# Altium schematic symbol library Resistor_0603.SchLib: 233 symbols (part 1 of 4)
Pins are listed as number, name and electrical type; pins without a type are passive.

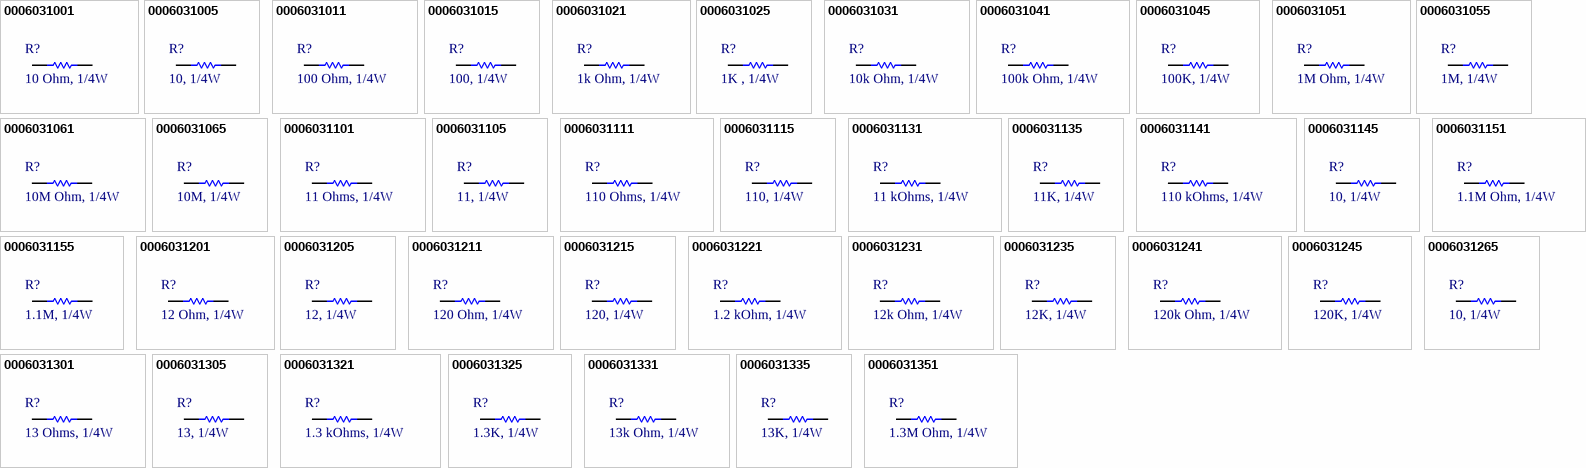
[diagram p0: symbols 0006031001 to 0006031351]

## 0006031001
designator R?, comment 10 Ohm, 1/4W
RES, 10 Ohm, size 0603, 1%; Resistance: 10; Resistance Tolerant: +/-1%; Supply 1 Name: Mouser; Supply 1 SN: 603-SR0603FR-7T10RL; Supply 2 Name: Digikey; Supply 2 SN: YAG5824TR-ND YAG5824CT-ND YAG5824DKR-ND; Size: 0603; Rated Power: 1/4W; Mounting Technology: SMT; ComponentLink1Description: Datasheet link; ComponentLink1URL: https://www.yageo.com/upload/media/product/productsearch/datasheet/rchip/PYu-SR_20105_RoHS_L_10.pdf; ComponentLink2Description: Supply 1 URL; ComponentLink2URL: https://www.mouser.vn/ProductDetail/YAGEO/SR0603FR-7T10RL?qs=sGAEpiMZZMvdGkrng054tz1y1XEHv7sNLVh8FRa6mVfbhGJwfIIhGg%3D%3D; ComponentLink3Description: Supply 2 URL; ComponentLink3URL: https://www.digikey.com/en/products/detail/yageo/SR0603FR-7T10RL/9373098
footprint resistor_0603
pins: 1, 2

## 0006031005
designator R?, comment 10, 1/4W
RES, 10 Ohm, size 0603, 5%; Manufacture  Name: Panasonic; Manufacture  SN: ERJ-UP3J100V; Resistance tolerance: +/-5%; Resistance: 10; Supply 1 Name: Mouser; Supply 1 SN: 667-ERJ-UP3J100V; Supply 2 Name: Digi-Key; Supply 2 SN: 10-ERJ-UP3J100VTR-ND - Tape & Reel (TR); Size: 0603; Mounting Technology: SMT; Rated Power: 1/4 W; Datasheet: https://www.mouser.vn/datasheet/2/315/Panasonic_Resistors_Thick_Film_Anti_Sulf_Anti_Surg-1825099.pdf; ComponentLink1Description: Datasheet link; ComponentLink1URL: *; Supply 1 URL: https://www.mouser.vn/ProductDetail/Panasonic/ERJ-UP3J100V?qs=GedFDFLaBXHtQF28GWvg8g%3D%3D; Supply 2 URL: https://www.digikey.com/en/products/detail/panasonic-electronic-components/ERJ-UP3J100V/12092287; Supply 3 Name: *; Supply 3 SN: *; Supply 3 URL: https://www.thegioiic.com/dien-tro-10-ohm-1-4w-5-4-vong-mau
footprint resistor_0603
pins: 1, 2

## 0006031011
designator R?, comment 100 Ohm, 1/4W
RES, 100 Ohm, size 0603, 1%; Resistance: 100; Resistance Tolerant: +/-1%; Supply 1 Name: Mouser; Supply 1 SN: 603-SR0603FR-7T100RL; Supply 2 Name: Digikey; Supply 2 SN: YAG5822TR-ND YAG5822CT-ND YAG5822DKR-ND; Size: 0603; Rated Power: 1/4W; Mounting Technology: SMT; ComponentLink1Description: Datasheet link; ComponentLink1URL: https://www.yageo.com/upload/media/product/productsearch/datasheet/rchip/PYu-SR_20105_RoHS_L_10.pdf; ComponentLink2Description: Supply 1 URL; ComponentLink2URL: https://www.mouser.vn/ProductDetail/YAGEO/SR0603FR-7T100RL?qs=sGAEpiMZZMvdGkrng054tz1y1XEHv7sNOEBvi%2FAEoxbcgRjDGFawVw%3D%3D; ComponentLink3Description: Supply 2 URL; ComponentLink3URL: https://www.digikey.com/en/products/detail/yageo/SR0603FR-7T100RL/9373096https://www.digikey.com/en/products/detail/yageo/SR0603FR-7T100RL/9373096
footprint resistor_0603
pins: 1, 2

## 0006031015
designator R?, comment 100, 1/4W
RES, 100 Ohm, size 0603, 5%; Manufacture  Name: Panasonic; Manufacture  SN: ERJ-PA3J101V; Resistance tolerance: +/-5%; Resistance: 100; Supply 1 Name: Mouser; Supply 1 SN: 667-ERJ-PA3J101V; Supply 2 Name: Digi-Key; Supply 2 SN: P100BZTR-ND - Tape & Reel (TR; Size: 0603; Mounting Technology: SMT; Rated Power: 1/4 W; Datasheet: https://www.mouser.vn/datasheet/2/315/AOA0000C331-1141874.pdf; ComponentLink1Description: Datasheet link; ComponentLink1URL: *; Supply 1 URL: https://www.mouser.vn/ProductDetail/Panasonic/ERJ-PA3J101V?qs=sGAEpiMZZMtlubZbdhIBIL24R7XL4VFWZlTxnuJKkJY%3D; Supply 2 URL: https://www.digikey.com/en/products/detail/panasonic-electronic-components/ERJ-PA3J101V/5035969?s=N4IgTCBcDaIGxwOwFoCiAlAUsgCgQQGZMBGABmIDUQBdAXyA; Supply 3 Name: *; Supply 3 SN: *; Supply 3 URL: https://www.thegioiic.com/dien-tro-100-ohm-1-4w-5-4-vong-mau
footprint resistor_0603
pins: 1, 2

## 0006031021
designator R?, comment 1k Ohm, 1/4W
RES, 1k Ohm, size 0603, 1%; Resistance Tolerant: +/-1%; Supply 1 Name: Mouser; Supply 1 SN: 71-RCS06031K00FKEA; Supply 2 Name: Digikey; Supply 2 SN: YAG5829TR-ND YAG5829CT-ND YAG5829DKR-ND; Resistance: 1k; Size: 0603; Rated Power: 1/4W; Mounting Technology: SMT; ComponentLink1Description: Datasheet link; ComponentLink1URL: https://www.yageo.com/upload/media/product/productsearch/datasheet/rchip/PYu-SR_20105_RoHS_L_10.pdf; ComponentLink2Description: Supply 1 URL; ComponentLink2URL: https://www.mouser.vn/ProductDetail/Vishay-Dale/RCS06031K00FKEA?qs=sGAEpiMZZMvdGkrng054t9clqp6gtJJdzI9PGMrTQi4RTIuHToNahw%3D%3D; ComponentLink3Description: Supply 2 URL; ComponentLink3URL: https://www.digikey.com/en/products/detail/yageo/SR0603FR-7T1KL/9373103
footprint resistor_0603
pins: 1, 2

## 0006031025
designator R?, comment 1K , 1/4W
RES, 1K Ohm, size 0603, 5%; Manufacture  Name: Panasonic; Manufacture  SN: ERJ-UP3J102V; Resistance tolerance: +/-5%; Supply 1 Name: Mouser; Supply 1 SN: 667-ERJ-UP3J102V; Supply 2 Name: Digi-Key; Size: 0603; Mounting Technology: SMT; Rated Power: 1/4 W; Datasheet: https://www.mouser.vn/datasheet/2/315/Panasonic_Resistors_Thick_Film_Anti_Sulf_Anti_Surg-1825099.pdf; Resistance: 1K; ComponentLink1Description: Datasheet link; ComponentLink1URL: *; Supply 1 URL: https://www.mouser.vn/ProductDetail/Panasonic/ERJ-UP3J102V?qs=GedFDFLaBXG0ASpYP%252B3phQ%3D%3D; Supply 2 SN: 667-ERJ-UP3J102V; Supply 2 URL: https://www.mouser.vn/ProductDetail/Panasonic/ERJ-UP3J102V?qs=GedFDFLaBXG0ASpYP%252B3phQ%3D%3D; Supply 3 Name: *; Supply 3 SN: *; Supply 3 URL: https://www.thegioiic.com/dien-tro-1-kohm-0603-5
footprint resistor_0603
pins: 1, 2

## 0006031031
designator R?, comment 10k Ohm, 1/4W
RES, 10k Ohm, size 0603, 1%; Resistance Tolerant: +/-1%; Supply 1 Name: Mouser; Supply 1 SN: 755-ESR03EZPF1002; Supply 2 Name: Digikey; Supply 2 SN: RHM10KADTR-ND RHM10KADCT-ND RHM10KADDKR-ND; Resistance: 10k; Size: 0603; Rated Power: 1/4W; Mounting Technology: SMT; ComponentLink1Description: Datasheet link; ComponentLink1URL: https://fscdn.rohm.com/en/products/databook/datasheet/passive/resistor/chip_resistor/esr-e.pdf; ComponentLink2Description: Supply 1 URL; ComponentLink2URL: https://www.mouser.vn/ProductDetail/ROHM-Semiconductor/ESR03EZPF1002?qs=sGAEpiMZZMvdGkrng054t67Efho1F8r6CDeAsqwFse8%3D; ComponentLink3Description: Supply 2 URL; ComponentLink3URL: https://www.digikey.com/en/products/detail/rohm-semiconductor/ESR03EZPF1002/1983429
footprint resistor_0603
pins: 1, 2

## 0006031041
designator R?, comment 100k Ohm, 1/4W
RES, 100k Ohm, size 0603, 1%; Resistance Tolerant: +/-1%; Supply 1 Name: Mouser; Supply 1 SN: 603-SR0603FR-7T100KL; Supply 2 Name: Digikey; Supply 2 SN: YAG5821TR-ND YAG5821CT-ND YAG5821DKR-ND; Resistance: 100k; Size: 0603; Rated Power: 1/4W; Mounting Technology: SMT; ComponentLink1Description: Datasheet link; ComponentLink1URL: https://www.yageo.com/upload/media/product/productsearch/datasheet/rchip/PYu-SR_20105_RoHS_L_10.pdf; ComponentLink2Description: Supply 1 URL; ComponentLink2URL: https://www.mouser.vn/ProductDetail/YAGEO/SR0603FR-7T100KL?qs=sGAEpiMZZMvdGkrng054tz1y1XEHv7sNa%252BA%2F4WiDMf7aGw4zRBb%2FFQ%3D%3D; ComponentLink3Description: Supply 2 URL; ComponentLink3URL: https://www.digikey.com/en/products/detail/yageo/SR0603FR-7T100KL/9373095
footprint resistor_0603
pins: 1, 2

## 0006031045
designator R?, comment 100K, 1/4W
RES, 100K Ohm, size 0603, 5%; Manufacture  Name: Panasonic; Manufacture  SN: ERJ-UP3J104V; Resistance tolerance: +/-5%; Supply 1 Name: Mouser; Supply 1 SN: 667-ERJ-UP3J104V; Supply 2 Name: Digi-Key; Supply 2 SN: 10-ERJ-UP3J104VTR-ND - Tape & Reel (TR); Size: 0603; Mounting Technology: SMT; Rated Power: 1/4 W; Datasheet: https://www.mouser.vn/datasheet/2/315/Panasonic_Resistors_Thick_Film_Anti_Sulf_Anti_Surg-1825099.pdf; Resistance: 100K; ComponentLink1Description: Datasheet link; ComponentLink1URL: *; Supply 1 URL: https://www.mouser.vn/ProductDetail/Panasonic/ERJ-UP3J104V?qs=GedFDFLaBXGDblK28z0pnQ%3D%3D; Supply 2 URL: https://www.digikey.com/en/products/detail/panasonic-electronic-components/ERJ-UP3J104V/12092096?s=N4IgTCBcDaIGxwOwFoCiAlAUsgqgBQGZMBGABgBYA1EAXQF8g; Supply 3 Name: *; Supply 3 SN: *; Supply 3 URL: https://www.thegioiic.com/dien-tro-100-kohm-0603-5
footprint resistor_0603
pins: 1, 2

## 0006031051
designator R?, comment 1M Ohm, 1/4W
RES, 1M Ohm, size 0603, 1%; Resistance Tolerant: +/-1%; Supply 1 Name: Mouser; Supply 1 SN: 71-RCS06031M00FKEA; Supply 2 Name: Digikey; Supply 2 SN: 541-2803-2-ND 541-2803-1-ND 541-2803-6-ND; Resistance: 1M; Size: 0603; Rated Power: 1/4W; Mounting Technology: SMT; ComponentLink1Description: Datasheet link; ComponentLink1URL: https://www.vishay.com/docs/20065/rcse3.pdf; ComponentLink2Description: Supply 1 URL; ComponentLink2URL: https://www.mouser.vn/ProductDetail/Vishay-Dale/RCS06031M00FKEA?qs=sGAEpiMZZMvdGkrng054t9clqp6gtJJdWojIF5doOmwdMUlAJJ6Dlw%3D%3D; ComponentLink3Description: Supply 2 URL; ComponentLink3URL: https://www.digikey.com/en/products/detail/vishay-dale/RCS06031M00FKEA/5866949
footprint resistor_0603
pins: 1, 2

## 0006031055
designator R?, comment 1M, 1/4W
RES, 1M Ohm, size 0603, 5%; Manufacture  Name: Panasonic; Manufacture  SN: ERJ-UP3J105V; Resistance tolerance: +/-5%; Supply 1 Name: Mouser; Supply 1 SN: 667-ERJ-UP3J105V; Supply 2 Name: Digi-Key; Supply 2 SN: 10-ERJ-UP3J105VTR-ND - Tape & Reel (TR); Size: 0603; Mounting Technology: SMT; Rated Power: 1/4 W; Datasheet: https://www.mouser.vn/datasheet/2/315/Panasonic_Resistors_Thick_Film_Anti_Sulf_Anti_Surg-1825099.pdf; Resistance: 1M; ComponentLink1Description: Datasheet link; ComponentLink1URL: *; Supply 1 URL: https://www.mouser.vn/ProductDetail/Panasonic/ERJ-UP3J105V?qs=GedFDFLaBXGINFBXL6YStg%3D%3D; Supply 2 URL: https://www.digikey.com/en/products/detail/panasonic-electronic-components/ERJ-UP3J105V/12092177?s=N4IgTCBcDaIGxwOwFoCiAlAUsgqgBQGZMBGABgFYA1EAXQF8g; Supply 3 Name: *; Supply 3 SN: *; Supply 3 URL: https://www.thegioiic.com/dien-tro-1-mohm-0603-5
footprint resistor_0603
pins: 1, 2

## 0006031061
designator R?, comment 10M Ohm, 1/4W
RES, 10M Ohm, size 0603, 1%; Resistance Tolerant: +/-1%; Supply 1 Name: Mouser; Supply 1 SN: 71-RCS060310M0FKEA; Supply 2 Name: Digikey; Supply 2 SN: 541-2804-2-ND 541-2804-1-ND 541-2804-6-ND; Resistance: 10M; Size: 0603; Rated Power: 1/4W; Mounting Technology: SMT; ComponentLink1Description: Datasheet link; ComponentLink1URL: https://www.vishay.com/docs/20065/rcse3.pdf; ComponentLink2Description: Supply 1 URL; ComponentLink2URL: https://www.mouser.vn/ProductDetail/Vishay-Dale/RCS060310M0FKEA?qs=sGAEpiMZZMvdGkrng054t9clqp6gtJJdahPuycv0ny4pNSNwsAhz7w%3D%3D; ComponentLink3Description: Supply 2 URL; ComponentLink3URL: https://www.digikey.com/en/products/detail/vishay-dale/RCS060310M0FKEA/5866950
footprint resistor_0603
pins: 1, 2

## 0006031065
designator R?, comment 10M, 1/4W
RES, 10M Ohm, size 0603, 5%; Manufacture  Name: Panasonic; Manufacture  SN: ERJ-UP3J100V; Resistance tolerance: +/-5%; Resistance: 10; Supply 1 Name: Mouser; Supply 1 SN: 667-ERJ-UP3J100V; Supply 2 Name: Digi-Key; Supply 2 SN: 10-ERJ-UP3J100VTR-ND - Tape & Reel (TR); Size: 0603; Mounting Technology: SMT; Rated Power: 1/4 W; Datasheet: https://www.mouser.vn/datasheet/2/315/Panasonic_Resistors_Thick_Film_Anti_Sulf_Anti_Surg-1825099.pdf; ComponentLink1Description: Datasheet link; ComponentLink1URL: *; Supply 1 URL: https://www.mouser.vn/ProductDetail/Panasonic/ERJ-UP3J100V?qs=GedFDFLaBXHtQF28GWvg8g%3D%3D; Supply 2 URL: https://www.digikey.com/en/products/detail/panasonic-electronic-components/ERJ-UP3J100V/12092287; Supply 3 Name: *; Supply 3 SN: *; Supply 3 URL: https://www.thegioiic.com/dien-tro-10-ohm-1-4w-5-4-vong-mau
footprint resistor_0603
pins: 1, 2

## 0006031101
designator R?, comment 11 Ohms, 1/4W
RES, 11 Ohms, size 0603, 1%; Resistance tolerance: +/-1%; Resistance: 11; Supply 1 Name: Mouser; Supply 1 SN: 667-ERJ-H3EF11R0V; Supply 2 Name: Digi-Key; Supply 2 SN: 311-11.0HRTR-ND; Size: 0603; Mounting Technology: SMT; Rated Power: 1/4 W; ComponentLink1Description: Datasheet link; ComponentLink1URL: *; Supply 1 URL: https://www.mouser.vn/ProductDetail/Panasonic/ERJ-H3EF11R0V?qs=sGAEpiMZZMtlubZbdhIBIGXWvNSLmQjehAx4Ifbz%252Bvw%3D; Supply 2 URL: https://www.digikey.com/en/products/detail/yageo/RC0603FR-0711RL/726896; Supply 3 Name: *; Supply 3 SN: *; Supply 3 URL: *
footprint resistor_0603
pins: 1, 2

## 0006031105
designator R?, comment 11, 1/4W
RES, 11 Ohm, size 0603, 5%; Manufacture  Name: Panasonic; Manufacture  SN: ERJ-PA3J110V; Resistance tolerance: +/-5%; Resistance: 11; Supply 1 Name: Mouser; Supply 1 SN: 667-ERJ-PA3J110V; Supply 2 Name: Digi-Key; Supply 2 SN: P11.00BZTR-ND - Tape & Reel (TR); Size: 0603; Mounting Technology: SMT; Rated Power: 1/4 W; Datasheet: https://www.mouser.vn/datasheet/2/315/AOA0000C331-1141874.pdf; ComponentLink1Description: Datasheet link; ComponentLink1URL: *; Supply 1 URL: https://www.mouser.vn/ProductDetail/Panasonic/ERJ-PA3J110V?qs=BzJM0faLVqUVJCFpF2esuw%3D%3D; Supply 2 URL: https://www.digikey.com/en/products/detail/panasonic-electronic-components/ERJ-PA3J110V/5035974?s=N4IgTCBcDaIKICUBSBaACgQQMxIIy4AYA1EAXQF8g; Supply 3 Name: *; Supply 3 SN: *; Supply 3 URL: *
footprint resistor_0603
pins: 1, 2

## 0006031111
designator R?, comment 110 Ohms, 1/4W
RES, 110 Ohms, size 0603, 1%; Resistance tolerance: +/-1%; Resistance: 110; Supply 1 Name: Mouser; Supply 1 SN: 755-SDR03EZPF1100; Supply 2 Name: Digi-Key; Supply 2 SN: 13-RC0603FR-13110RLTR-ND; Size: 0603; Mounting Technology: SMT; Rated Power: 1/4 W; ComponentLink1Description: Datasheet link; ComponentLink1URL: *; Supply 1 URL: https://www.mouser.vn/ProductDetail/ROHM-Semiconductor/SDR03EZPF1100?qs=sGAEpiMZZMtlubZbdhIBIK8AeiPKd8jI%252BjeyNdNREGg%3D; Supply 2 URL: https://www.digikey.com/en/products/detail/yageo/RC0603FR-13110RL/14286378; Supply 3 Name: *; Supply 3 SN: *; Supply 3 URL: *
footprint resistor_0603
pins: 1, 2

## 0006031115
designator R?, comment 110, 1/4W
RES, 110 Ohm, size 0603, 5%; Manufacture  Name: Panasonic; Manufacture  SN: ERJ-PA3J111V; Resistance tolerance: +/-5%; Resistance: 110; Supply 1 Name: Mouser; Supply 1 SN: 667-ERJ-PA3J111V; Supply 2 Name: Digi-Key; Supply 2 SN: P110BZTR-ND - Tape & Reel (TR); Size: 0603; Mounting Technology: SMT; Rated Power: 1/4 W; Datasheet: https://www.mouser.vn/datasheet/2/315/AOA0000C331-1141874.pdf; ComponentLink1Description: Datasheet link; ComponentLink1URL: *; Supply 1 URL: https://www.mouser.vn/ProductDetail/Panasonic/ERJ-PA3J111V?qs=BzJM0faLVqVWsrK26X2SBg%3D%3D; Supply 2 URL: https://www.digikey.com/en/products/detail/panasonic-electronic-components/ERJ-PA3J110V/5035974?s=N4IgTCBcDaIKICUBSBaACgQQMxIIy4AYA1EAXQF8g; Supply 3 Name: *; Supply 3 SN: *; Supply 3 URL: *
footprint resistor_0603
pins: 1, 2

## 0006031131
designator R?, comment 11 kOhms, 1/4W
RES, 11 kOhms, size 0603, 1%; Resistance tolerance: +/-1%; Resistance: 11k; Supply 1 Name: Mouser; Supply 1 SN: 755-SDR03EZPF1102; Supply 2 Name: Digi-Key; Supply 2 SN: 311-11.0KHRTR-ND; Size: 0603; Mounting Technology: SMT; Rated Power: 1/4 W; ComponentLink1Description: Datasheet link; ComponentLink1URL: *; Supply 1 URL: https://www.mouser.vn/ProductDetail/ROHM-Semiconductor/SDR03EZPF1102?qs=sGAEpiMZZMtlubZbdhIBIPTwcdbU5mXWlesgK7T9hPY%3D; Supply 2 URL: https://www.digikey.com/en/products/detail/yageo/RC0603FR-0711KL/726897; Supply 3 Name: *; Supply 3 SN: *; Supply 3 URL: *
footprint resistor_0603
pins: 1, 2

## 0006031135
designator R?, comment 11K, 1/4W
RES, 11K Ohm, size 0603, 5%; Manufacture  Name: Panasonic; Resistance tolerance: +/-5%; Supply 1 Name: Mouser; Supply 1 SN: ERJ-PA3J113V; Supply 2 Name: Digi-Key; Supply 2 SN: P11KBZTR-ND - Tape & Reel (TR); Size: 0603; Mounting Technology: SMT; Rated Power: 1/4 W; Datasheet: https://www.mouser.vn/datasheet/2/315/AOA0000C331-1141874.pdf; Resistance: 11K; ComponentLink1Description: Datasheet link; ComponentLink1URL: *; Supply 1 URL: https://www.mouser.vn/ProductDetail/Panasonic/ERJ-PA3J113V?qs=BzJM0faLVqVM8QjVQI3mRg%3D%3D; Supply 2 URL: https://www.digikey.com/en/products/detail/panasonic-electronic-components/ERJ-PA3J113V/5035977?s=N4IgTCBcDaIGxwOwFoCiAlAUsgCgQQGZMBGYggNRAF0BfIA; Supply 3 Name: *; Supply 3 SN: *; Supply 3 URL: *; Manufacture  SN: ERJ-PA3J113V
footprint resistor_0603
pins: 1, 2

## 0006031141
designator R?, comment 110 kOhms, 1/4W
RES, 110 kOhms, size 0603, 1%; Resistance tolerance: +/-1%; Resistance: 110k; Supply 1 Name: Mouser; Supply 1 SN: 667-ERJ-H3EF1103V; Supply 2 Name: Digi-Key; Supply 2 SN: 311-110KHRTR-ND; Size: 0603; Mounting Technology: SMT; Rated Power: 1/4 W; ComponentLink1Description: Datasheet link; ComponentLink1URL: *; Supply 1 URL: https://www.mouser.vn/ProductDetail/Panasonic/ERJ-H3EF1103V?qs=sGAEpiMZZMtlubZbdhIBIGXWvNSLmQjenhRG9dQSCBk%3D; Supply 2 URL: https://www.digikey.com/en/products/detail/yageo/RC0603FR-07110KL/726905; Supply 3 Name: *; Supply 3 SN: *; Supply 3 URL: *
footprint resistor_0603
pins: 1, 2

## 0006031145
designator R?, comment 10, 1/4W
RES, 110K Ohm, size 0603, 5%; Manufacture  Name: Panasonic; Manufacture  SN: ERJ-PA3J114V; Resistance tolerance: +/-5%; Supply 1 Name: Mouser; Supply 1 SN: 667-ERJ-PA3J114V; Supply 2 Name: Digi-Key; Supply 2 SN: P110KBZTR-ND - Tape & Reel (TR); Size: 0603; Mounting Technology: SMT; Rated Power: 1/4 W; Datasheet: https://www.mouser.vn/datasheet/2/315/AOA0000C331-1141874.pdf; Resistance: 110K; ComponentLink1Description: Datasheet link; ComponentLink1URL: *; Supply 1 URL: https://www.mouser.vn/ProductDetail/Panasonic/ERJ-PA3J114V?qs=BzJM0faLVqW9SUUBohRIoQ%3D%3D; Supply 2 URL: https://www.digikey.com/en/products/detail/panasonic-electronic-components/ERJ-PA3J114V/5035978?s=N4IgTCBcDaIGxwOwFoCiAlAUsgCgQQGZMBGYgFgDUQBdAXyA; Supply 3 Name: *; Supply 3 SN: *; Supply 3 URL: *
footprint resistor_0603
pins: 1, 2

## 0006031151
designator R?, comment 1.1M Ohm, 1/4W
RES, 1.1M Ohm, size 0603, 1%; Resistance Tolerant: +/-1%; Supply 1 Name: Mouser; Supply 1 SN: 755-ESR03EZPF1104; Supply 2 Name: Digikey; Supply 2 SN: ESR03EZPF1104-ND; Resistance: 1.1M; Size: 0603; Rated Power: 1/4W; Mounting Technology: SMT; ComponentLink1Description: Datasheet link; ComponentLink1URL: https://www.mouser.vn/datasheet/2/348/ROHM_S_A0011075102_1-2563252.pdf; ComponentLink2Description: Supply 1 URL; ComponentLink2URL: https://www.mouser.vn/ProductDetail/ROHM-Semiconductor/ESR03EZPF1104?qs=sGAEpiMZZMvdGkrng054tywGjayRHxH2NDi0T%2FrU%252Bi%2FZqTg7cSJ0BA%3D%3D; ComponentLink3Description: Supply 2 URL; ComponentLink3URL: https://www.digikey.com/en/products/detail/rohm-semiconductor/ESR03EZPF1104/4007150?s=N4IgjCBcoExaBjKAzAhgGwM4FMA0IB7KAbXADYBWAFgGYQBdfABwBcoQBlFgJwEsA7AOYgAvvjrQQSSGix5CJcGBoRGIVuy58ho-GBgBOCJOmyc%2BIpFI0DMKhQbM2kTjwHCxIGAAYAHA5MUDHMFK3AAOjAAAgBZAHkACwBbTEd1ZxAAVX5eFjjkGOxUTABXbmxRTzgw8sxeTBYCbgYRIA
footprint resistor_0603
pins: 1, 2

## 0006031155
designator R?, comment 1.1M, 1/4W
RES, 1.1M Ohm, size 0603, 5%; Manufacture  Name: Panasonic; Manufacture  SN: ERJ-PA3J115V; Resistance tolerance: +/-5%; Supply 1 Name: Mouser; Supply 1 SN: 667-ERJ-PA3J115V; Supply 2 Name: Digi-Key; Supply 2 SN: P124098TR-ND - Tape & Reel (TR); Size: 0603; Mounting Technology: SMT; Rated Power: 1/4 W; Datasheet: https://www.mouser.vn/datasheet/2/315/AOA0000C331-1141874.pdf; Resistance: 1.1M; ComponentLink1Description: Datasheet link; ComponentLink1URL: *; Supply 1 URL: https://www.mouser.vn/ProductDetail/Panasonic/ERJ-PA3J115V?qs=qSfuJ%252Bfl%2Fd52nzS52dr8qA%3D%3D; Supply 2 URL: https://www.digikey.com/en/products/detail/panasonic-electronic-components/ERJ-PA3J115V/9694904?s=N4IgTCBcDaIGxwOwFoCiAlAUsgCgQQGZMBGYgVgDUQBdAXyA; Supply 3 Name: *; Supply 3 SN: *; Supply 3 URL: *
footprint resistor_0603
pins: 1, 2

## 0006031201
designator R?, comment 12 Ohm, 1/4W
RES, 12 Ohm, size 0603, 1%; Resistance: 12; Resistance Tolerant: +/-1%; Supply 1 Name: Mouser; Supply 1 SN: 71-RCS060312R0FKEA; Supply 2 Name: Digikey; Supply 2 SN: 541-10429-2-ND 541-10429-1-ND 541-10429-6-ND; Size: 0603; Rated Power: 1/4W; Mounting Technology: SMT; ComponentLink1Description: Datasheet link; ComponentLink1URL: https://www.vishay.com/docs/20065/rcse3.pdf; ComponentLink2Description: Supply 1 URL; ComponentLink2URL: https://www.mouser.vn/ProductDetail/Vishay-Dale/RCS060312R0FKEA?qs=sGAEpiMZZMvdGkrng054txfS%2FhNqc3c5FTsHeTNyRUP0%2FMnOe8KtUg%3D%3D; ComponentLink3Description: Supply 2 URL; ComponentLink3URL: https://www.digikey.com/en/products/detail/vishay-dale/RCS060312R0FKEA/5868272
footprint resistor_0603
pins: 1, 2

## 0006031205
designator R?, comment 12, 1/4W
RES, 12 Ohm, size 0603, 5%; Manufacture  Name: Panasonic; Manufacture  SN: ERJ-PA3J120V; Resistance tolerance: +/-5%; Resistance: 10; Supply 1 Name: Mouser; Supply 2 Name: Digi-Key; Supply 2 SN: P12.00BZTR-ND - Tape & Reel (TR); Size: 0603; Mounting Technology: SMT; Rated Power: 1/4 W; Datasheet: https://www.mouser.vn/datasheet/2/315/AOA0000C331-1141874.pdf; ComponentLink1Description: Datasheet link; ComponentLink1URL: *; Supply 1 SN: https://www.mouser.vn/ProductDetail/Panasonic/ERJ-PA3J120V?qs=BzJM0faLVqW1x3yhFHUqTw%3D%3D; Supply 1 URL: https://www.mouser.vn/ProductDetail/Panasonic/ERJ-PA3J120V?qs=BzJM0faLVqW1x3yhFHUqTw%3D%3D; Supply 2 URL: https://www.digikey.com/en/products/detail/panasonic-electronic-components/ERJ-PA3J120V/5035979?s=N4IgTCBcDaIGxwOwFoCiAlAUsgCgQQGZMBGMABgDUQBdAXyA; Supply 3 Name: *; Supply 3 SN: *; Supply 3 URL: https://www.thegioiic.com/dien-tro-12-ohm-0603-5-
footprint resistor_0603
pins: 1, 2

## 0006031211
designator R?, comment 120 Ohm, 1/4W
RES, 120 Ohm, size 0603, 1%; Resistance: 120; Resistance Tolerant: +/-1%; Supply 1 Name: Mouser; Supply 1 SN: 603-SR0603FR-7T120RL; Supply 2 Name: Digikey; Supply 2 SN: YAG5825TR-ND YAG5825CT-ND YAG5825DKR-ND; Size: 0603; Rated Power: 1/4W; Mounting Technology: SMT; ComponentLink1Description: Datasheet link; ComponentLink1URL: https://www.yageo.com/upload/media/product/productsearch/datasheet/rchip/PYu-SR_20105_RoHS_L_10.pdf; ComponentLink2Description: Supply 1 URL; ComponentLink2URL: https://www.mouser.vn/ProductDetail/YAGEO/SR0603FR-7T120RL?qs=sGAEpiMZZMvdGkrng054tz1y1XEHv7sNpzSbq0ZWZmOggb8s%252BZMxlg%3D%3D; ComponentLink3Description: Supply 2 URL; ComponentLink3URL: https://www.digikey.com/en/products/detail/yageo/SR0603FR-7T120RL/9373099
footprint resistor_0603
pins: 1, 2

## 0006031215
designator R?, comment 120, 1/4W
RES, 120 Ohm, size 0603, 5%; Manufacture  Name: Panasonic; Manufacture  SN: ERJ-PA3J121V; Resistance tolerance: +/-5%; Resistance: 120; Supply 1 Name: Mouser; Supply 1 SN: 667-ERJ-PA3J121V; Supply 2 Name: Digi-Key; Supply 2 SN: P120BZTR-ND - Tape & Reel (TR); Size: 0603; Mounting Technology: SMT; Rated Power: 1/4 W; Datasheet: https://www.mouser.vn/datasheet/2/315/AOA0000C331-1141874.pdf; ComponentLink1Description: Datasheet link; ComponentLink1URL: *; Supply 1 URL: https://www.mouser.vn/ProductDetail/Panasonic/ERJ-PA3J121V?qs=BzJM0faLVqUskHAfNBlRjA%3D%3D; Supply 2 URL: https://www.digikey.com/en/products/detail/panasonic-electronic-components/ERJ-PA3J121V/5035980?s=N4IgTCBcDaIGxwOwFoCiAlAUsgCgQQGZMBGMYgNRAF0BfIA; Supply 3 Name: *; Supply 3 SN: *; Supply 3 URL: https://www.thegioiic.com/dien-tro-120-ohm-0603-5
footprint resistor_0603
pins: 1, 2

## 0006031221
designator R?, comment 1.2 kOhm, 1/4W
RES, 1.2k Ohm, size 0603, 1%; Resistance Tolerant: +/-1%; Supply 1 Name: Mouser; Supply 1 SN: 667-ERJ-UP3F1201V; Supply 2 Name: Digikey; Supply 2 SN: 10-ERJ-UP3F1201VTR-ND 10-ERJ-UP3F1201VCT-ND 10-ERJ-UP3F1201VDKR-ND; Resistance: 1.2k; Size: 0603; Rated Power: 1/4W; Mounting Technology: SMT; ComponentLink1Description: Datasheet link; ComponentLink1URL: https://api.pim.na.industrial.panasonic.com/file_stream/main/fileversion/4484; ComponentLink2Description: Supply 1 URL; ComponentLink2URL: https://www.mouser.vn/ProductDetail/Panasonic/ERJ-UP3F1201V?qs=sGAEpiMZZMvdGkrng054twq3eZrCFN895BO3G72d%2F02jECAea43bgQ%3D%3D; ComponentLink3Description: Supply 2 URL; ComponentLink3URL: https://www.digikey.com/en/products/detail/panasonic-electronic-components/ERJ-UP3F1201V/12092811
footprint resistor_0603
pins: 1, 2

## 0006031231
designator R?, comment 12k Ohm, 1/4W
RES, 12k Ohm, size 0603, 1%; Resistance Tolerant: +/-1%; Supply 1 Name: Mouser; Supply 1 SN: 71-RCS060312K0FKEA; Supply 2 Name: Digikey; Supply 2 SN: 541-10428-2-ND 541-10428-1-ND 541-10428-6-ND; Resistance: 12k; Size: 0603; Rated Power: 1/4W; Mounting Technology: SMT; ComponentLink1Description: Datasheet link; ComponentLink1URL: https://www.vishay.com/doc?20065; ComponentLink2Description: Supply 1 URL; ComponentLink2URL: https://www.mouser.vn/ProductDetail/Vishay-Dale/RCS060312K0FKEA?qs=sGAEpiMZZMvdGkrng054t9clqp6gtJJdYU2CGrvXFnAdCOf%2F3daJvA%3D%3D; ComponentLink3Description: Supply 2 URL; ComponentLink3URL: https://www.digikey.com/en/products/detail/vishay-dale/RCS060312K0FKEA/5868600
footprint resistor_0603
pins: 1, 2

## 0006031235
designator R?, comment 12K, 1/4W
RES, 12K Ohm, size 0603, 5%; Manufacture  Name: Panasonic; Resistance tolerance: +/-5%; Supply 1 Name: Mouser; Supply 1 SN: 667-ERJ-PA3J123V; Supply 2 Name: Digi-Key; Supply 2 SN: P12KBZTR-ND - Tape & Reel (TR); Size: 0603; Mounting Technology: SMT; Rated Power: 1/4 W; Datasheet: https://www.mouser.vn/datasheet/2/315/AOA0000C331-1141874.pdf; Resistance: 12K; ComponentLink1Description: Datasheet link; ComponentLink1URL: *; Supply 1 URL: https://www.mouser.vn/ProductDetail/Panasonic/ERJ-PA3J123V?qs=BzJM0faLVqUmhFLBcKz%2F9g%3D%3D; Supply 2 URL: https://www.digikey.com/en/products/detail/panasonic-electronic-components/ERJ-PA3J123V/5035982?s=N4IgTCBcDaIGxwOwFoCiAlAUsgCgQQGZMBGMAgNRAF0BfIA; Supply 3 Name: *; Supply 3 SN: *; Supply 3 URL: https://www.thegioiic.com/dien-tro-12-kohm-0603-5
footprint resistor_0603
pins: 1, 2

## 0006031241
designator R?, comment 120k Ohm, 1/4W
RES, 120k Ohm, size 0603, 1%; Resistance Tolerant: +/-1%; Supply 1 Name: Mouser; Supply 1 SN: 279-CRGP0603F120K; Supply 2 Name: Digikey; Supply 2 SN: A130441TR-ND A130441CT-ND A130441DKR-ND; Resistance: 120k; Size: 0603; Rated Power: 1/4W; Mounting Technology: SMT; ComponentLink1Description: Datasheet link; ComponentLink1URL: https://www.te.com/usa-en/product-5-2176326-0.datasheet.pdf; ComponentLink2Description: Supply 1 URL; ComponentLink2URL: https://www.mouser.vn/ProductDetail/TE-Connectivity-Holsworthy/CRGP0603F120K?qs=sGAEpiMZZMvdGkrng054tz1y1XEHv7sN3VL4vdyfLgCsGGuTshbYRg%3D%3D; ComponentLink3Description: Supply 2 URL; ComponentLink3URL: https://www.digikey.com/en/products/detail/te-connectivity-passive-product/CRGP0603F120K/8577043
footprint resistor_0603
pins: 1, 2

## 0006031245
designator R?, comment 120K, 1/4W
RES, 120K Ohm, size 0603, 5%; Manufacture  Name: Panasonic; Manufacture  SN: ERJ-PA3J124V; Resistance tolerance: +/-5%; Supply 1 Name: Mouser; Supply 1 SN: 667-ERJ-PA3J124V; Supply 2 Name: Digi-Key; Supply 2 SN: P120KBZTR-ND - Tape & Reel (TR); Size: 0603; Mounting Technology: SMT; Rated Power: 1/4 W; Datasheet: https://www.mouser.vn/datasheet/2/315/AOA0000C331-1141874.pdf; Resistance: 120K; ComponentLink1Description: Datasheet link; ComponentLink1URL: *; Supply 1 URL: https://www.mouser.vn/ProductDetail/Panasonic/ERJ-PA3J124V?qs=BzJM0faLVqW0tp%252B4qebUxw%3D%3D; Supply 2 URL: https://www.digikey.com/en/products/detail/panasonic-electronic-components/ERJ-PA3J124V/5035983?s=N4IgTCBcDaIGxwOwFoCiAlAUsgCgQQGZMBGMAFgDUQBdAXyA; Supply 3 Name: *; Supply 3 SN: *; Supply 3 URL: https://www.thegioiic.com/dien-tro-120-kohm-0603-5
footprint resistor_0603
pins: 1, 2

## 0006031265
designator R?, comment 10, 1/4W
RES, 12M Ohm, size 0603, 5%; Resistance tolerance: +/-5%; Size: 0603; Mounting Technology: SMT; Rated Power: 1/4 W; Datasheet: https://www.mouser.vn/datasheet/2/315/Panasonic_Resistors_Thick_Film_Anti_Sulf_Anti_Surg-1825099.pdf; Resistance: 12M; ComponentLink1Description: Datasheet link; ComponentLink1URL: *; Supply 1 Name: *; Supply 1 SN: *; Supply 1 URL: *; Supply 2 Name: *; Supply 2 SN: *; Supply 2 URL: *; Supply 3 Name: *; Supply 3 SN: *; Supply 3 URL: *; Manufacture  Name: *; Manufacture  SN: *
footprint resistor_0603
pins: 1, 2

## 0006031301
designator R?, comment 13 Ohms, 1/4W
RES, 13 Ohms, size 0603, 1%; Resistance tolerance: +/-1%; Resistance: 13; Supply 1 Name: Mouser; Supply 1 SN: 667-ERJ-H3EF13R0V; Supply 2 Name: Digi-Key; Supply 2 SN: 13-RC0603FR-1313RL-ND; Size: 0603; Mounting Technology: SMT; Rated Power: 1/4 W; ComponentLink1Description: Datasheet link; ComponentLink1URL: *; Supply 1 URL: https://www.mouser.vn/ProductDetail/Panasonic/ERJ-H3EF13R0V?qs=eP2BKZSCXI6cMaSES3PMrQ%3D%3D; Supply 2 URL: https://www.digikey.com/en/products/detail/yageo/RC0603FR-1313RL/17017125; Supply 3 Name: *; Supply 3 SN: *
footprint resistor_0603
pins: 1, 2

## 0006031305
designator R?, comment 13, 1/4W
RES, 13 Ohm, size 0603, 5%; Manufacture  Name: Panasonic; Manufacture  SN: ERJ-PA3J130V; Resistance tolerance: +/-5%; Resistance: 13; Supply 1 Name: Mouser; Supply 1 SN: 667-ERJ-PA3J130V; Supply 2 Name: Digi-Key; Supply 2 SN: P13.00BZTR-ND - Tape & Reel (TR); Size: 0603; Mounting Technology: SMT; Rated Power: 1/4 W; Datasheet: https://www.mouser.vn/datasheet/2/315/AOA0000C331-1141874.pdf; ComponentLink1Description: Datasheet link; ComponentLink1URL: *; Supply 1 URL: https://www.digikey.com/en/products/detail/panasonic-electronic-components/ERJ-PA3J130V/5035984?s=N4IgTCBcDaIGxwOwFoCiAlAUsgCgQQGZMBGAgBgDUQBdAXyA; Supply 2 URL: https://www.digikey.com/en/products/detail/panasonic-electronic-components/ERJ-PA3J130V/5035984?s=N4IgTCBcDaIGxwOwFoCiAlAUsgCgQQGZMBGAgBgDUQBdAXyA; Supply 3 Name: *; Supply 3 SN: *; Supply 3 URL: *
footprint resistor_0603
pins: 1, 2

## 0006031321
designator R?, comment 1.3 kOhms, 1/4W
RES, 1.3 kOhms, size 0603, 1%; Resistance tolerance: +/-1%; Resistance: 1.3k; Supply 1 Name: Mouser; Supply 1 SN: 755-SDR03EZPF1301; Supply 2 Name: Digi-Key; Supply 2 SN: 1276-4655-2-ND; Size: 0603; Mounting Technology: SMT; Rated Power: 1/4 W; ComponentLink1Description: Datasheet link; ComponentLink1URL: *; Supply 1 URL: https://www.mouser.vn/ProductDetail/ROHM-Semiconductor/SDR03EZPF1301?qs=vvQtp7zwQdMzEJe7Zu8KXQ%3D%3D; Supply 2 URL: https://www.digikey.com/en/products/detail/samsung-electro-mechanics/RC1608F132CS/3964962; Supply 3 Name: *; Supply 3 SN: *
footprint resistor_0603
pins: 1, 2

## 0006031325
designator R?, comment 1.3K, 1/4W
RES, 1.3K Ohm, size 0603, 5%; Manufacture  Name: Panasonic; Manufacture  SN: ERJ-PA3J132V; Resistance tolerance: +/-5%; Supply 1 Name: Mouser; Supply 1 SN: 667-ERJ-PA3J132V; Supply 2 Name: Digi-Key; Supply 2 SN: P1.3KBZTR-ND - Tape & Reel (TR); Size: 0603; Mounting Technology: SMT; Rated Power: 1/4 W; Datasheet: https://www.mouser.vn/datasheet/2/315/AOA0000C331-1141874.pdf; Resistance: 1.3K; ComponentLink1Description: Datasheet link; ComponentLink1URL: *; Supply 1 URL: https://www.mouser.vn/ProductDetail/Panasonic/ERJ-PA3J132V?qs=BzJM0faLVqVH6IcrChaVZw%3D%3D; Supply 2 URL: https://www.digikey.com/en/products/detail/panasonic-electronic-components/ERJ-PA3J132V/5035986?s=N4IgTCBcDaIGxwOwFoCiAlAUsgCgQQGZMBGAsANRAF0BfIA; Supply 3 Name: *; Supply 3 SN: *
footprint resistor_0603
pins: 1, 2

## 0006031331
designator R?, comment 13k Ohm, 1/4W
RES, 13k Ohm, size 0603, 1%; Resistance Tolerant: +/-1%; Supply 1 Name: Mouser; Supply 1 SN: 755-ESR03EZPF1302; Supply 2 Name: Digikey; Supply 2 SN: ESR03EZPF1302-ND; Resistance: 13k; Size: 0603; Rated Power: 1/4W; Mounting Technology: SMT; ComponentLink1Description: Datasheet link; ComponentLink1URL: https://fscdn.rohm.com/en/products/databook/datasheet/passive/resistor/chip_resistor/esr-e.pdf; ComponentLink2Description: Supply 1 URL; ComponentLink2URL: https://www.mouser.vn/ProductDetail/ROHM-Semiconductor/ESR03EZPF1302?qs=sGAEpiMZZMvdGkrng054tywGjayRHxH2BixSkNTZUClpiy4%252BI%252BxkXA%3D%3D; ComponentLink3Description: Supply 2 URL; ComponentLink3URL: https://www.digikey.com/en/products/detail/rohm-semiconductor/ESR03EZPF1302/4007159
footprint resistor_0603
pins: 1, 2

## 0006031335
designator R?, comment 13K, 1/4W
RES, 13K Ohm, size 0603, 5%; Manufacture  Name: Panasonic; Manufacture  SN: ERJ-PA3J133V; Resistance tolerance: +/-5%; Supply 1 Name: Mouser; Supply 1 SN: 667-ERJ-PA3J133V; Supply 2 Name: Digi-Key; Supply 2 SN: P13KBZTR-ND - Tape & Reel (TR); Size: 0603; Mounting Technology: SMT; Rated Power: 1/4 W; Datasheet: https://www.mouser.vn/datasheet/2/315/AOA0000C331-1141874.pdf; Resistance: 13K; ComponentLink1Description: Datasheet link; ComponentLink1URL: *; Supply 1 URL: https://www.mouser.vn/ProductDetail/Panasonic/ERJ-PA3J133V?qs=BzJM0faLVqWIEe8wMw2nxQ%3D%3D; Supply 2 URL: https://www.digikey.com/en/products/detail/panasonic-electronic-components/ERJ-PA3J133V/5035987?s=N4IgTCBcDaIGxwOwFoCiAlAUsgCgQQGZMBGAggNRAF0BfIA; Supply 3 Name: *; Supply 3 SN: *; Supply 3 URL: https://www.thegioiic.com/dien-tro-13-kohm-0603-5
footprint resistor_0603
pins: 1, 2

## 0006031351
designator R?, comment 1.3M Ohm, 1/4W
RES, 1.3M Ohm, size 0603, 1%; Resistance Tolerant: +/-1%; Supply 1 Name: Mouser; Supply 1 SN: 755-ESR03EZPF1304; Supply 2 Name: Digikey; Supply 2 SN: ESR03EZPF1304-ND; Resistance: 1.3M; Size: 0603; Rated Power: 1/4W; Mounting Technology: SMT; ComponentLink1Description: Datasheet link; ComponentLink1URL: https://fscdn.rohm.com/en/products/databook/datasheet/passive/resistor/chip_resistor/esr-e.pdf; ComponentLink2Description: Supply 1 URL; ComponentLink2URL: https://www.mouser.vn/ProductDetail/ROHM-Semiconductor/ESR03EZPF1304?qs=sGAEpiMZZMvdGkrng054tywGjayRHxH2F68AQDlvJAEARD0qBpXaNA%3D%3D; ComponentLink3Description: Supply 2 URL; ComponentLink3URL: https://www.digikey.com/en/products/detail/rohm-semiconductor/ESR03EZPF1304/4007161?s=N4IgjCBcoExaBjKAzAhgGwM4FMA0IB7KAbXADYBWAFgGYQBdfABwBcoQBlFgJwEsA7AOYgAvvjrQQSSGix5CJcGBoRGIVuy58ho-GBgBOCJOmyc%2BIpFI0DMKhQbM2kTjwHCxIGAAYAHA5MUDHMFK3AAOhoAAgBZAHkACwBbTEd1ZxAAVX5eFjjkGOxUTABXbmxRTzgw8sxeTBYCbgYRIA
footprint resistor_0603
pins: 1, 2

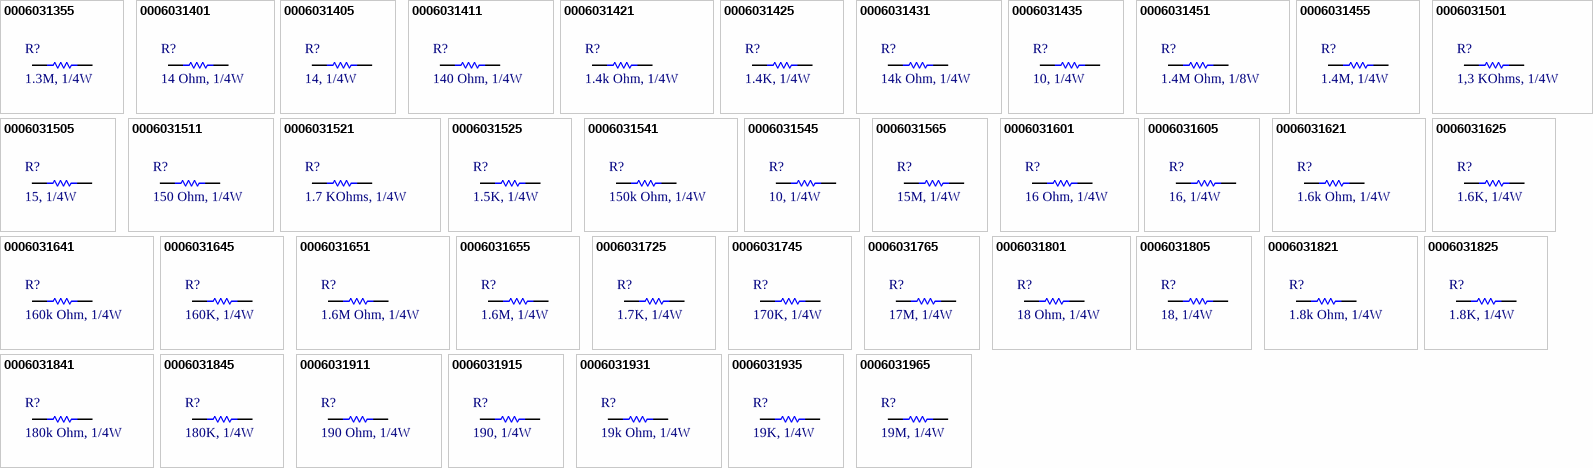
[diagram p1: symbols 0006031355 to 0006031965]

## 0006031355
designator R?, comment 1.3M, 1/4W
RES, 1.3M Ohm, size 0603, 5%; Manufacture  Name: Panasonic; Manufacture  SN: ERJ-PA3J135V; Resistance tolerance: +/-5%; Supply 1 Name: Mouser; Supply 1 SN: 667-ERJ-PA3J135V; Supply 2 Name: Digi-Key; Supply 2 SN: P124100TR-ND - Tape & Reel (TR); Size: 0603; Mounting Technology: SMT; Rated Power: 1/4 W; Datasheet: https://www.mouser.vn/datasheet/2/315/Panasonic_Resistors_Thick_Film_Anti_Sulf_Anti_Surg-1825099.pdf; Resistance: 1.3M; ComponentLink1Description: Datasheet link; ComponentLink1URL: *; Supply 1 URL: https://www.mouser.vn/ProductDetail/Panasonic/ERJ-PA3J135V?qs=qSfuJ%252Bfl%2Fd43JlVrOpg6Sg%3D%3D; Supply 2 URL: https://www.digikey.com/en/products/detail/panasonic-electronic-components/ERJ-PA3J135V/9694906?s=N4IgTCBcDaIGxwOwFoCiAlAUsgCgQQGZMBGAgVgDUQBdAXyA; Supply 3 Name: *; Supply 3 SN: *; Supply 3 URL: *
footprint resistor_0603
pins: 1, 2

## 0006031401
designator R?, comment 14 Ohm, 1/4W
RES, 14 Ohm, size 0603, 1%; Resistance: 14; Resistance Tolerant: +/-1%; Supply 1 Name: Mouser; Supply 1 SN: 755-ESR03EZPF14R0; Supply 2 Name: Digikey; Supply 2 SN: 511-ESR03EZPF14R0TR-ND 511-ESR03EZPF14R0CT-ND 511-ESR03EZPF14R0DKR-ND; Size: 0603; Rated Power: 1/4W; Mounting Technology: SMT; ComponentLink1Description: Datasheet link; ComponentLink1URL: https://fscdn.rohm.com/en/products/databook/datasheet/passive/resistor/chip_resistor/esr-e.pdf; ComponentLink2Description: Supply 1 URL; ComponentLink2URL: https://www.mouser.vn/ProductDetail/ROHM-Semiconductor/ESR03EZPF14R0?qs=sGAEpiMZZMvdGkrng054txLI%2FDB4oIKDWIlgynysVFeNX%252Bd5gR98IA%3D%3D; ComponentLink3Description: Supply 2 URL; ComponentLink3URL: https://www.digikey.com/en/products/detail/rohm-semiconductor/ESR03EZPF14R0/15667414
footprint resistor_0603
pins: 1, 2

## 0006031405
designator R?, comment 14, 1/4W
RES, 14 Ohm, size 0603, 5%; Resistance tolerance: +/-5%; Size: 0603; Mounting Technology: SMT; Rated Power: 1/4 W; Datasheet: *; Resistance: *; ComponentLink1Description: Datasheet link; ComponentLink1URL: *; Supply 1 Name: *; Supply 1 SN: *; Supply 1 URL: *; Supply 2 Name: *; Supply 2 SN: *; Supply 2 URL: *; Supply 3 Name: *; Supply 3 SN: *; Supply 3 URL: *; Manufacture  Name: *; Manufacture  SN: *
footprint resistor_0603
pins: 1, 2

## 0006031411
designator R?, comment 140 Ohm, 1/4W
RES, 140 Ohm, size 0603, 1%; Resistance: 140; Resistance Tolerant: +/-1%; Supply 1 Name: Mouser; Supply 1 SN: 667-ERJ-PA3F1400V; Supply 2 Name: Digikey; Supply 2 SN: 10-ERJ-UP3F1400VTR-ND; Size: 0603; Rated Power: 1/4W; Mounting Technology: SMT; ComponentLink1Description: Datasheet link; ComponentLink1URL: https://api.pim.na.industrial.panasonic.com/file_stream/main/fileversion/4484; ComponentLink2Description: Supply 1 URL; ComponentLink2URL: https://www.mouser.vn/ProductDetail/Panasonic/ERJ-PA3F1400V?qs=sGAEpiMZZMvdGkrng054t6%2FAfIpq60YDUw0C6t6aFC9B4ZKoQojPVQ%3D%3D; ComponentLink3Description: Supply 2 URL; ComponentLink3URL: https://www.digikey.com/en/products/detail/panasonic-electronic-components/ERJ-UP3F1400V/12092528
footprint resistor_0603
pins: 1, 2

## 0006031421
designator R?, comment 1.4k Ohm, 1/4W
RES, 1.4k Ohm, size 0603, 1%; Resistance Tolerant: +/-1%; Supply 1 Name: Mouser; Supply 1 SN: 667-ERJ-UP3F1401V; Supply 2 Name: Digikey; Supply 2 SN: 10-ERJ-UP3F1401VTR-ND; Resistance: 1.4k; Size: 0603; Rated Power: 1/4W; Mounting Technology: SMT; ComponentLink1Description: Datasheet link; ComponentLink1URL: https://api.pim.na.industrial.panasonic.com/file_stream/main/fileversion/4484; ComponentLink2Description: Supply 1 URL; ComponentLink2URL: https://www.mouser.vn/ProductDetail/Panasonic/ERJ-UP3F1401V?qs=sGAEpiMZZMvdGkrng054twq3eZrCFN89pBpe1a038m3v47HekkOiAg%3D%3D; ComponentLink3Description: Supply 2 URL; ComponentLink3URL: https://www.digikey.com/en/products/detail/panasonic-electronic-components/ERJ-UP3F1401V/12092618
footprint resistor_0603
pins: 1, 2

## 0006031425
designator R?, comment 1.4K, 1/4W
RES, 1.4K Ohm, size 0603, 5%; Resistance tolerance: +/-5%; Size: 0603; Mounting Technology: SMT; Rated Power: 1/4 W; Datasheet: *; Resistance: 1.4k; ComponentLink1Description: Datasheet link; ComponentLink1URL: *; Supply 1 Name: *; Supply 1 SN: *; Supply 1 URL: *; Supply 2 Name: *; Supply 2 SN: *; Supply 2 URL: *; Supply 3 Name: *; Supply 3 SN: *; Supply 3 URL: *; Manufacture  Name: *; Manufacture  SN: *
footprint resistor_0603
pins: 1, 2

## 0006031431
designator R?, comment 14k Ohm, 1/4W
RES, 14k Ohm, size 0603, 1%; Resistance Tolerant: +/-1%; Supply 1 Name: Mouser; Supply 1 SN: 667-ERJ-UP3F1402V; Supply 2 Name: Digikey; Supply 2 SN: 10-ERJ-UP3F1402VTR-ND; Resistance: 14k; Size: 0603; Rated Power: 1/4W; Mounting Technology: SMT; ComponentLink1Description: Datasheet link; ComponentLink1URL: https://api.pim.na.industrial.panasonic.com/file_stream/main/fileversion/4484; ComponentLink2Description: Supply 1 URL; ComponentLink2URL: https://www.mouser.vn/ProductDetail/Panasonic/ERJ-UP3F1402V?qs=sGAEpiMZZMvdGkrng054twq3eZrCFN898VaK5WHU92U0FyzYc7IlXQ%3D%3D; ComponentLink3Description: Supply 2 URL; ComponentLink3URL: https://www.digikey.com/en/products/detail/panasonic-electronic-components/ERJ-UP3F1402V/12091995
footprint resistor_0603
pins: 1, 2

## 0006031435
designator R?, comment 10, 1/4W
RES, 14K Ohm, size 0603, 5%; Resistance tolerance: +/-5%; Size: 0603; Mounting Technology: SMT; Rated Power: 1/4 W; Datasheet: *; Resistance: 14K; ComponentLink1Description: Datasheet link; ComponentLink1URL: *; Supply 1 Name: *; Supply 1 SN: *; Supply 1 URL: *; Supply 2 Name: *; Supply 2 SN: *; Supply 2 URL: *; Supply 3 Name: *; Supply 3 SN: *; Supply 3 URL: *; Manufacture  Name: *; Manufacture  SN: *
footprint resistor_0603
pins: 1, 2

## 0006031451
designator R?, comment 1.4M Ohm, 1/8W
RES, 1.4M Ohm, size 0603, 1%; Resistance Tolerant: +/-1%; Supply 1 Name: Mouser; Supply 1 SN: 791-MR06W1404FTL; Resistance: 1.4M; Size: 0603; Rated Power: 1/8W; Mounting Technology: SMT; ComponentLink1Description: Datasheet link; ComponentLink1URL: https://www.mouser.vn/datasheet/2/210/kamaya_watc_s_a0007468046_1-1736097.pdf; ComponentLink2Description: Supply 1 URL; ComponentLink2URL: https://www.mouser.vn/ProductDetail/Walsin/MR06W1404FTL?qs=GedFDFLaBXEJcV7CwmDJPg%3D%3D
footprint resistor_0603
pins: 1, 2

## 0006031455
designator R?, comment 1.4M, 1/4W
RES, 1.4M Ohm, size 0603, 5%; Resistance tolerance: +/-5%; Size: 0603; Mounting Technology: SMT; Rated Power: 1/4 W; Datasheet: *; Resistance: 1.4M; ComponentLink1Description: Datasheet link; ComponentLink1URL: *; Supply 1 Name: *; Supply 1 SN: *; Supply 1 URL: *; Supply 2 Name: *; Supply 2 SN: *; Supply 2 URL: *; Supply 3 Name: *; Supply 3 SN: *; Supply 3 URL: *; Manufacture  Name: *; Manufacture  SN: *
footprint resistor_0603
pins: 1, 2

## 0006031501
designator R?, comment 1,3 KOhms, 1/4W
RES, 15 Ohms, size 0603, 1%; Resistance tolerance: +/-1%; Resistance: 15; Supply 1 Name: Mouser; Supply 1 SN: 667-ERJ-UP3F15R0V; Supply 2 Name: Digi-Key; Supply 2 SN: A129666TR-ND; Size: 0603; Mounting Technology: SMT; Rated Power: 1/4 W; ComponentLink1Description: Datasheet link; ComponentLink1URL: *; Supply 1 URL: https://www.mouser.vn/ProductDetail/Panasonic/ERJ-UP3F15R0V?qs=GedFDFLaBXGQZcdT1wNdQA%3D%3D; Supply 2 URL: https://www.digikey.com/en/products/detail/te-connectivity-passive-product/CRGCQ0603F15R/8576268; Supply 3 Name: *; Supply 3 SN: *
footprint resistor_0603
pins: 1, 2

## 0006031505
designator R?, comment 15, 1/4W
RES, 15 Ohm, size 0603, 5%; Manufacture  Name: Panasonic; Manufacture  SN: ERJ-PA3J150V; Resistance tolerance: +/-5%; Resistance: 15; Supply 1 Name: Mouser; Supply 1 SN: 667-ERJ-PA3J150V; Supply 2 Name: Digi-Key; Supply 2 SN: P15.00BZTR-ND - Tape & Reel (TR); Size: 0603; Mounting Technology: SMT; Rated Power: 1/4 W; Datasheet: https://www.mouser.vn/datasheet/2/315/AOA0000C331-1141874.pdf; ComponentLink1Description: Datasheet link; ComponentLink1URL: *; Supply 1 URL: https://www.mouser.vn/ProductDetail/Panasonic/ERJ-PA3J150V?qs=BzJM0faLVqWQrQpdpn4WSg%3D%3D; Supply 2 URL: https://www.digikey.com/en/products/detail/panasonic-electronic-components/ERJ-PA3J150V/5035989?s=N4IgTCBcDaIGxwOwFoCiAlAUsgCgQQGZMBGAVgAYA1EAXQF8g; Supply 3 Name: *; Supply 3 SN: *; Supply 3 URL: https://www.thegioiic.com/dien-tro-15-ohm-0603-5-
footprint resistor_0603
pins: 1, 2

## 0006031511
designator R?, comment 150 Ohm, 1/4W
RES, 150 Ohm, size 0603, 1%; Resistance: 150; Resistance Tolerant: +/-1%; Supply 1 Name: Mouser; Supply 1 SN: 667-ERJ-UP3F1500V; Supply 2 Name: Digikey; Supply 2 SN: 10-ERJ-UP3F1500VTR-ND 10-ERJ-UP3F1500VCT-ND 10-ERJ-UP3F1500VDKR-ND; Size: 0603; Rated Power: 1/4W; Mounting Technology: SMT; ComponentLink1Description: Datasheet link; ComponentLink1URL: https://api.pim.na.industrial.panasonic.com/file_stream/main/fileversion/4484; ComponentLink2Description: Supply 1 URL; ComponentLink2URL: https://www.mouser.vn/ProductDetail/Panasonic/ERJ-UP3F1500V?qs=sGAEpiMZZMvdGkrng054twq3eZrCFN89aN9HHZ6KB345kfMKb%252BB8mQ%3D%3D; ComponentLink3Description: Supply 2 URL; ComponentLink3URL: https://www.digikey.com/en/products/detail/panasonic-electronic-components/ERJ-UP3F1500V/12092505
footprint resistor_0603
pins: 1, 2

## 0006031521
designator R?, comment 1.7 KOhms, 1/4W
RES, 1.5 kOhms, size 0603, 1%; Resistance tolerance: +/-1%; Resistance: 1.5 k; Supply 1 Name: Mouser; Supply 1 SN: 755-SFR03EZPF1501; Supply 2 Name: Digi-Key; Supply 2 SN: 13-RC0603FR-071R5LTR-ND; Size: 0603; Mounting Technology: SMT; Rated Power: 1/4 W; ComponentLink1Description: Datasheet link; ComponentLink1URL: *; Supply 1 URL: https://www.mouser.vn/ProductDetail/ROHM-Semiconductor/SFR03EZPF1501?qs=byeeYqUIh0NryWvnzlukLQ%3D%3D; Supply 2 URL: https://www.digikey.com/en/products/detail/yageo/RC0603FR-071R5L/5918292; Supply 3 Name: *; Supply 3 SN: *
footprint resistor_0603
pins: 1, 2

## 0006031525
designator R?, comment 1.5K, 1/4W
RES, 1.5K Ohm, size 0603, 5%; Manufacture  Name: Panasonic; Resistance tolerance: +/-5%; Supply 1 Name: Mouser; Supply 1 SN: 667-ERJ-PA3J152V; Supply 2 Name: Digi-Key; Supply 2 SN: P1.5KBZTR-ND - Tape & Reel (TR); Size: 0603; Mounting Technology: SMT; Rated Power: 1/4 W; Datasheet: https://www.mouser.vn/datasheet/2/315/Panasonic_Resistors_Thick_Film_Anti_Sulf_Anti_Surg-1825099.pdf; Resistance: 1.5K; ComponentLink1Description: Datasheet link; ComponentLink1URL: *; Supply 1 URL: https://www.mouser.vn/ProductDetail/Panasonic/ERJ-PA3J152V?qs=BzJM0faLVqVoRX2ZXjooUw%3D%3D; Supply 2 URL: https://www.digikey.com/en/products/detail/panasonic-electronic-components/ERJ-PA3J152V/5035991?s=N4IgTCBcDaIGxwOwFoCiAlAUsgCgQQGZMBGAVjADUQBdAXyA; Supply 3 Name: *; Supply 3 SN: *; Supply 3 URL: https://www.thegioiic.com/dien-tro-1-5-kohm-0603-5; Manufacture  SN: https://www.mouser.vn/ProductDetail/Panasonic/ERJ-PA3J152V?qs=BzJM0faLVqVoRX2ZXjooUw%3D%3D
footprint resistor_0603
pins: 1, 2

## 0006031541
designator R?, comment 150k Ohm, 1/4W
RES, 150k Ohm, size 0603, 1%; Resistance Tolerant: +/-1%; Supply 1 Name: Mouser; Supply 1 SN: 71-RCS0603150KFKEA; Supply 2 Name: Digikey; Supply 2 SN: 541-RCS0603150KFKEATR-ND 541-RCS0603150KFKEACT-ND 541-RCS0603150KFKEADKR-ND; Resistance: 150k; Size: 0603; Rated Power: 1/4W; Mounting Technology: SMT; ComponentLink1Description: Datasheet link; ComponentLink1URL: https://www.vishay.com/docs/20065/rcse3.pdf; ComponentLink2Description: Supply 1 URL; ComponentLink2URL: https://www.mouser.vn/ProductDetail/Vishay-Dale/RCS0603150KFKEA?qs=sGAEpiMZZMvdGkrng054t9clqp6gtJJdfH%252BXqq0SHQPcFX9vWgSfoA%3D%3D; ComponentLink3Description: Supply 2 URL; ComponentLink3URL: https://www.digikey.com/en/products/detail/vishay-dale/RCS0603150KFKEA/5868719
footprint resistor_0603
pins: 1, 2

## 0006031545
designator R?, comment 10, 1/4W
RES, 150K Ohm, size 0603, 5%; Manufacture  Name: Panasonic; Manufacture  SN: ERJ-PA3J154V; Resistance tolerance: +/-5%; Supply 1 Name: Mouser; Supply 1 SN: 667-ERJ-PA3J154V; Supply 2 Name: Digi-Key; Supply 2 SN: P150KBZTR-ND - Tape & Reel (TR); Size: 0603; Mounting Technology: SMT; Rated Power: 1/4 W; Datasheet: https://www.mouser.vn/datasheet/2/315/AOA0000C331-1141874.pdf; Resistance: 150K; ComponentLink1Description: Datasheet link; ComponentLink1URL: *; Supply 1 URL: https://www.mouser.vn/ProductDetail/Panasonic/ERJ-PA3J154V?qs=BzJM0faLVqUQ0OxnTOD5Tw%3D%3D; Supply 2 URL: https://www.digikey.com/en/products/detail/panasonic-electronic-components/ERJ-PA3J154V/5035993?s=N4IgTCBcDaIKICUBSBaACgQQMxIIwFYAWANRAF0BfIA; Supply 3 Name: *; Supply 3 SN: *; Supply 3 URL: https://www.thegioiic.com/dien-tro-150-kohm-0603-5
footprint resistor_0603
pins: 1, 2

## 0006031565
designator R?, comment 15M, 1/4W
RES, 15M Ohm, size 0603, 5%; Resistance tolerance: +/-5%; Size: 0603; Mounting Technology: SMT; Rated Power: 1/4 W; Datasheet: *; Resistance: 15M; ComponentLink1Description: Datasheet link; ComponentLink1URL: *; Supply 1 Name: *; Supply 1 SN: *; Supply 1 URL: *; Supply 2 Name: *; Supply 2 SN: *; Supply 2 URL: *; Supply 3 Name: *; Supply 3 SN: *; Supply 3 URL: *; Manufacture  Name: *; Manufacture  SN: *
footprint resistor_0603
pins: 1, 2

## 0006031601
designator R?, comment 16 Ohm, 1/4W
RES, 16 Ohm, size 0603, 1%; Resistance: 16; Resistance Tolerant: +/-1%; Supply 1 Name: Mouser; Supply 1 SN: 755-ESR03EZPF16R0; Supply 2 Name: Digikey; Supply 2 SN: ESR03EZPF16R0-ND; Size: 0603; Rated Power: 1/4W; Mounting Technology: SMT; ComponentLink1Description: Datasheet link; ComponentLink1URL: https://fscdn.rohm.com/en/products/databook/datasheet/passive/resistor/chip_resistor/esr-e.pdf; ComponentLink2Description: Supply 1 URL; ComponentLink2URL: https://www.mouser.vn/ProductDetail/ROHM-Semiconductor/ESR03EZPF16R0?qs=sGAEpiMZZMvdGkrng054tywGjayRHxH2wMEIET7Cwghl8FZ0HiH%2FCA%3D%3D; ComponentLink3Description: Supply 2 URL; ComponentLink3URL: https://www.digikey.com/en/products/detail/rohm-semiconductor/ESR03EZPF16R0/4007172
footprint resistor_0603
pins: 1, 2

## 0006031605
designator R?, comment 16, 1/4W
RES, 16 Ohm, size 0603, 5%; Manufacture  Name: Panasonic; Manufacture  SN: ERJ-PA3J160V; Resistance tolerance: +/-5%; Resistance: 16; Supply 1 Name: Mouser; Supply 1 SN: 667-ERJ-PA3J160V; Supply 2 Name: Digi-Key; Supply 2 SN: P16.00BZTR-ND - Tape & Reel (TR); Size: 0603; Mounting Technology: SMT; Rated Power: 1/4 W; Datasheet: https://www.mouser.vn/datasheet/2/315/AOA0000C331-1141874.pdf; ComponentLink1Description: Datasheet link; ComponentLink1URL: *; Supply 1 URL: https://www.mouser.vn/ProductDetail/Panasonic/ERJ-PA3J160V?qs=BzJM0faLVqV33b%2FdElWIBA%3D%3D; Supply 2 URL: https://www.digikey.com/en/products/detail/panasonic-electronic-components/ERJ-PA3J160V/5035994?s=N4IgTCBcDaIGxwOwFoCiAlAUsgCgQQGZMBGOABgDUQBdAXyA; Supply 3 Name: *; Supply 3 SN: *; Supply 3 URL: *
footprint resistor_0603
pins: 1, 2

## 0006031621
designator R?, comment 1.6k Ohm, 1/4W
RES, 1.6k Ohm, size 0603, 1%; Resistance Tolerant: +/-1%; Supply 1 Name: Mouser; Supply 1 SN: 667-ERJ-UP3F1601V; Supply 2 Name: Digikey; Supply 2 SN: 10-ERJ-UP3F1601VTR-ND 10-ERJ-UP3F1601VCT-ND 10-ERJ-UP3F1601VDKR-ND; Resistance: 1.6k; Size: 0603; Rated Power: 1/4W; Mounting Technology: SMT; ComponentLink1Description: Datasheet link; ComponentLink1URL: https://api.pim.na.industrial.panasonic.com/file_stream/main/fileversion/4484; ComponentLink2Description: Supply 1 URL; ComponentLink2URL: https://www.mouser.vn/ProductDetail/Panasonic/ERJ-UP3F1601V?qs=sGAEpiMZZMvdGkrng054twq3eZrCFN89dq27EuLiC%2FCt%252B5lA9pZnUg%3D%3D; ComponentLink3Description: Supply 2 URL; ComponentLink3URL: https://www.digikey.com/en/products/detail/panasonic-electronic-components/ERJ-UP3F1601V/12139388
footprint resistor_0603
pins: 1, 2